# Altium schematic symbol library 5055750261.SchLib: 1 symbol
Pins are listed as number, name and electrical type; pins without a type are passive.

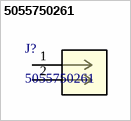
[diagram p0: symbol 5055750261]

## 5055750261
designator J?
2.00mm Pitch, Micro-Lock Plus PCB Header, Single Row, Vertical, Surface Mount, 0.10Âµm Gold Plating, Positive Lock, 2 Circuits, Low-Halogen, Black; Manufacturer_Name: Molex; Copyright: Copyright (C) 2026 Ultra Librarian. All rights reserved.; Manufacturer_Part_Number: 5055750261; RefDes: RefDes; Type: Type
footprint CONN_505575_02_MOL
pins: 1, 2